# EAGLE library part 61300821021 (library Wuerth_Elektronik_eiCan_Pin_&_Socked_Headers_v1.3)
WR-PHD 2.54mm Angled Dual Pin Header, 8 Pins
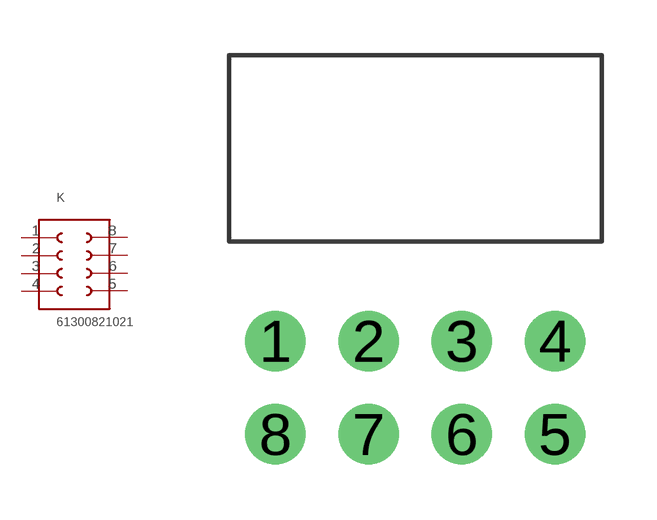
[diagram p75: symbol with the pads of 61300821021; footprint 61300821021]

Designator prefix K

## 61300821021  [61300821021]
1  1  pas
2  2  pas
3  3  pas
4  4  pas
5  5  pas
6  6  pas
7  7  pas
8  8  pas

## Footprint 61300821021 (pad centres in mm)
WR-PHD 2.54mm Angled Dual Pin Header, 8 Pins
drill 1.1 round: 1 -3.81,1.27; 2 -1.27,1.27; 3 1.27,1.27; 4 3.81,1.27; 5 3.81,-1.27; 6 1.27,-1.27; 7 -1.27,-1.27; 8 -3.81,-1.27